# Altium schematic symbol library 左手键盘1.SchLib: 4 symbols
Pins are listed as number, name and electrical type; pins without a type are passive.

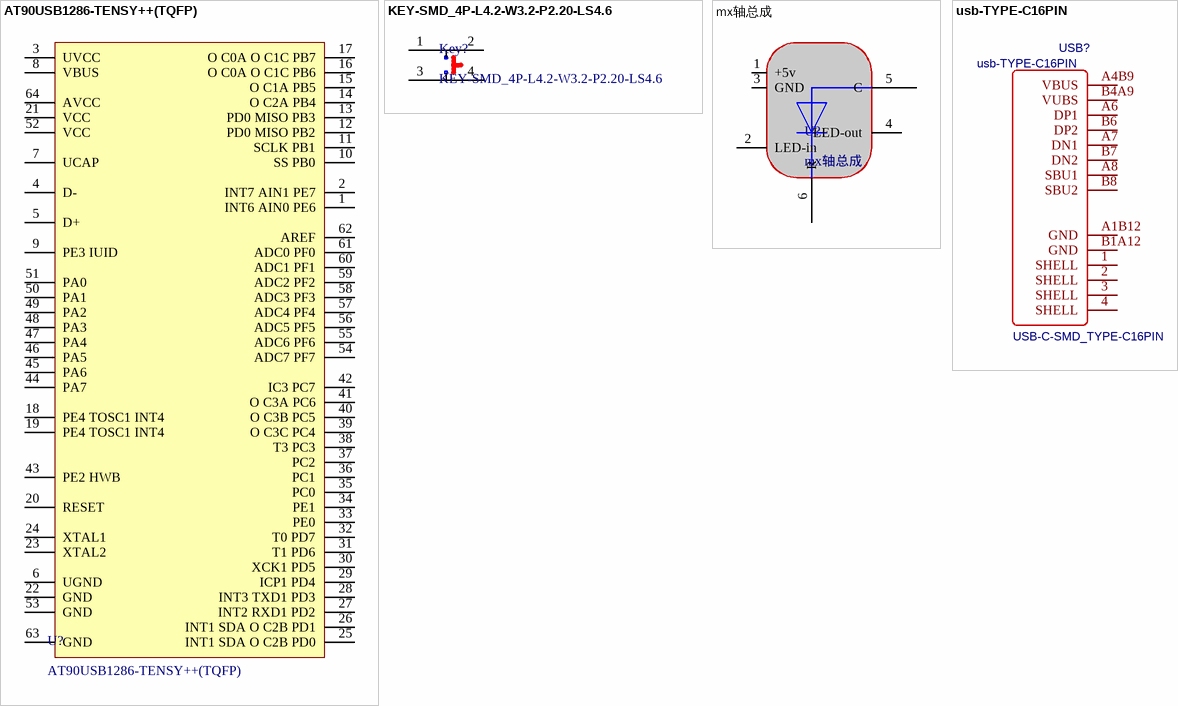
[diagram p0: symbols AT90USB1286-TENSY++(TQFP) to usb-TYPE-C16PIN]

## AT90USB1286-TENSY++(TQFP)
designator U?
footprint TQFP64-14*14 (14x14mm, 0.8mm(蒜米工坊）)
pins: 1 INT6 AIN0 PE6, 2 INT7 AIN1 PE7, 3 UVCC, 4 D-, 5 D+, 6 UGND, 7 UCAP, 8 VBUS, 9 PE3 IUID, 10 SS PB0, 11 SCLK PB1, 12 PD0 MISO PB2, 13 PD0 MISO PB3, 14 O C2A PB4, 15 O C1A PB5, 16 O C0A O C1C PB6, 17 O C0A O C1C PB7, 18 PE4 TOSC1 INT4, 19 PE4 TOSC1 INT4, 20 RESET, 21 VCC, 22 GND, 23 XTAL2, 24 XTAL1, 25 INT1 SDA O C2B PD0, 26 INT1 SDA O C2B PD1, 27 INT2 RXD1 PD2, 28 INT3 TXD1 PD3, 29 ICP1 PD4, 30 XCK1 PD5, 31 T1 PD6, 32 T0 PD7, 33 PE0, 34 PE1, 35 PC0, 36 PC1, 37 PC2, 38 T3 PC3, 39 O C3C PC4, 40 O C3B PC5, 41 O C3A PC6, 42 IC3 PC7, 43 PE2 HWB, 44 PA7, 45 PA6, 46 PA5, 47 PA4, 48 PA3, 49 PA2, 50 PA1, 51 PA0, 52 VCC, 53 GND, 54 ADC7 PF7, 55 ADC6 PF6, 56 ADC5 PF5, 57 ADC4 PF4, 58 ADC3 PF3, 59 ADC2 PF2, 60 ADC1 PF1, 61 ADC0 PF0, 62 AREF, 63 GND, 64 AVCC

## KEY-SMD_4P-L4.2-W3.2-P2.20-LS4.6
designator Key?
pins: 1, 2, 3, 4

## mx轴总成
designator U?
KEY
footprint mx-zc-zheng
footprint mx-zc-fan
pins: 1 +5v, 2 LED-in, 3 GND, 4 LED-out, 5 C, 6 R

## usb-TYPE-C16PIN
designator USB?
BOM_Manufacturer: SHOU HAN; Contributor: shiyindebcd; Package Display: Yes; BOM_Supplier: LCSC; BOM_Supplier Part: C393939; BOM_Manufacturer Part: TYPE-C16PIN; spicePre: U; spiceSymbolName: usb-TYPE-C16PIN
footprint USB-C-SMD_TYPE-C16PIN
pins: 1 SHELL, 2 SHELL, 3 SHELL, 4 SHELL, A1B12 GND, A4B9 VBUS, A6 DP1, A7 DN1, A8 SBU1, B1A12 GND, B4A9 VUBS, B6 DP2, B7 DN2, B8 SBU2
text: USB-C-SMD_TYPE-C16PIN